# Altium footprint library PASSIVES.PcbLib: 8 footprints
Each footprint in its own frame and in the unit in brackets; x right, y up, seen from the top. Pads: shape width x height; smd on the part's side, far side on the other; paste and mask are expansions set on the pad; w line width, h text height; cw(c..) or ccw(c..) is an arc to the next point about the centre after c.
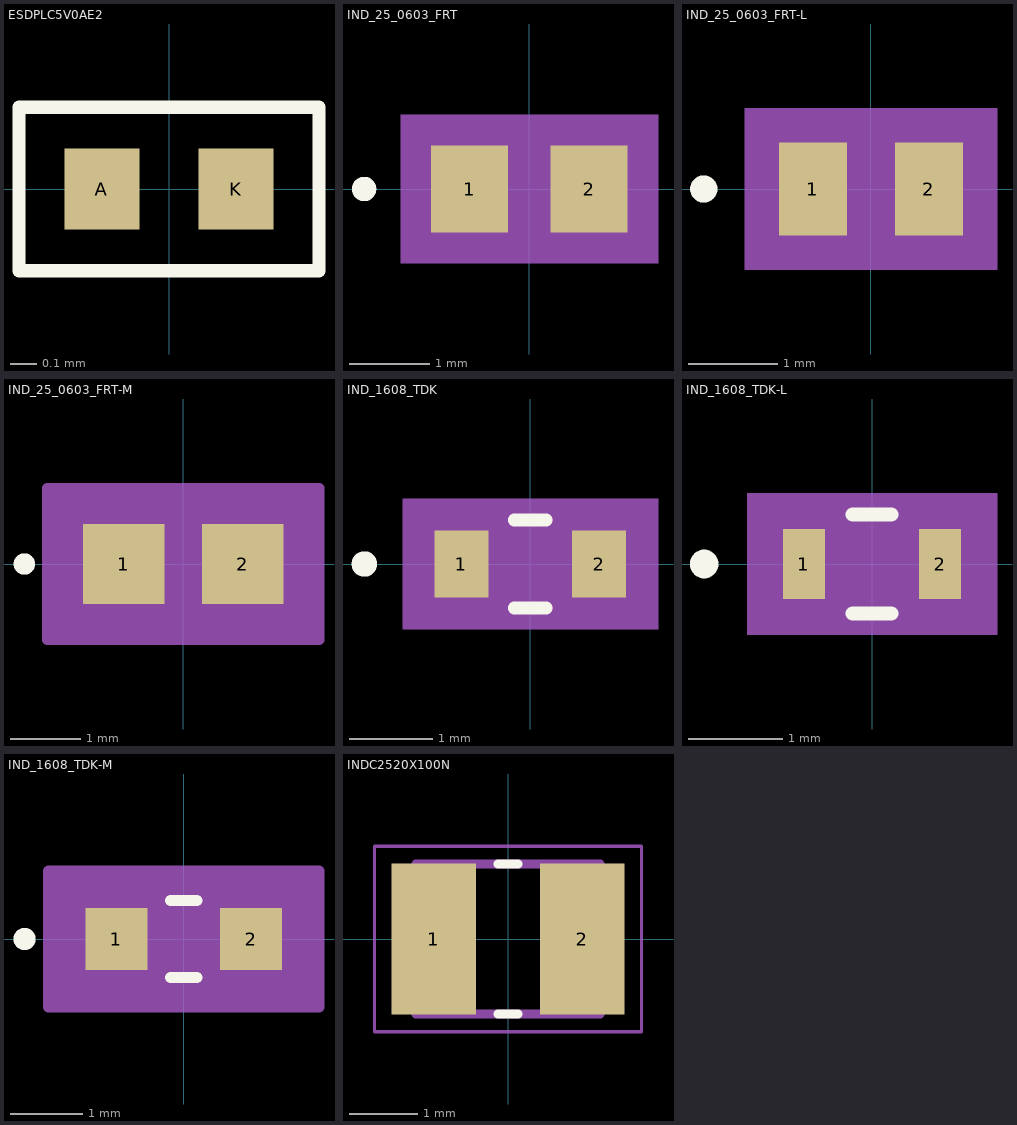
[diagram p0: the footprints below, top view; thin cyan lines are the x and y axes]

## ESDPLC5V0AE2 [mm]
pads (2):
  rect 0.28x0.3 smd: A(-0.25,0) K(0.25,0)
Top Overlay:
  lines w0.05: -0.559,-0.305 -0.559,0.305 0.559,0.305 0.559,-0.305 -0.559,-0.305

## IND_25_0603_FRT [mil]
pads (2):
  rect 37.78x43 smd paste+0 mask+0: 1(-29.39,0) 2(29.39,0)
Top Overlay:
  circle w6: c-81.28,0 r3
Mechanical 5:
  region: 63.28,-36.5 -63.28,-36.5 -63.28,36.5 63.28,36.5
Mechanical 13:
  circle w0: c-24.39,0 r3
  lines w1: -34.5,-21.5 -34.5,21.5 ; -34.5,-21.5 34.5,-21.5 ; -34.5,-21.5 -10.5,-21.5 -10.5,21.5 -34.5,21.5 ; -34.5,-21.5 -34.5,21.5 ; -34.5,21.5 34.5,21.5 ; 34.5,-21.5 34.5,21.5 ; 34.5,-21.5 34.5,21.5 ; 34.5,-21.5 10.5,-21.5 10.5,21.5 34.5,21.5
Mechanical 15:
  region: 58.28,-31.5 -58.28,-31.5 -58.28,31.5 58.28,31.5
  lines w6: -58.28,-31.5 58.28,-31.5 58.28,31.5 -58.28,31.5 -58.28,-31.5
3D body "IND_25_0603_FRT.step": height 42.99, standoff 0, extent -34.49,-21.5 34.49,21.5

## IND_25_0603_FRT-L [mm]
pads (2):
  rect 0.76x1.042 smd paste+0 mask+0: 1(-0.647,0) 2(0.647,0)
Top Overlay:
  circle w0.152: c-1.864,0 r0.076
Mechanical 5:
  region: 1.407,-0.902 -1.407,-0.902 -1.407,0.902 1.407,0.902
Mechanical 13:
  circle w0: c-0.52,0 r0.076
  lines w0.025: -0.876,-0.546 -0.876,0.546 ; -0.876,-0.546 -0.267,-0.546 -0.267,0.546 -0.876,0.546 ; -0.876,-0.546 0.876,-0.546 ; -0.876,-0.546 -0.876,0.546 ; -0.876,0.546 0.876,0.546 ; 0.876,-0.546 0.267,-0.546 0.267,0.546 0.876,0.546 ; 0.876,-0.546 0.876,0.546 ; 0.876,-0.546 0.876,0.546
Mechanical 15:
  region: 1.128,-0.623 -1.128,-0.623 -1.128,0.623 1.128,0.623
  lines w0.152: -1.128,-0.623 -1.128,0.623 1.128,0.623 1.128,-0.623 -1.128,-0.623
3D body "IND_25_0603_FRT.step": height 1.09, standoff 0, extent -0.876,-0.546 0.876,0.546

## IND_25_0603_FRT-M [mm]
pads (2):
  rect 1.16x1.142 smd paste+0 mask+0: 1(-0.847,0) 2(0.847,0)
Top Overlay:
  circle w0.152: c-2.264,0 r0.076
Mechanical 5:
  region: 1.807,-0.952 -1.807,-0.952 -1.807,0.952 1.807,0.952
Mechanical 13:
  circle w0: c-0.72,0 r0.076
  lines w0.025: -0.876,-0.546 -0.876,0.546 ; -0.876,-0.546 -0.267,-0.546 -0.267,0.546 -0.876,0.546 ; -0.876,-0.546 0.876,-0.546 ; -0.876,-0.546 -0.876,0.546 ; -0.876,0.546 0.876,0.546 ; 0.876,-0.546 0.267,-0.546 0.267,0.546 0.876,0.546 ; 0.876,-0.546 0.876,0.546 ; 0.876,-0.546 0.876,0.546
Mechanical 15:
  region: 1.934,-1.079 -1.934,-1.079 -1.934,1.079 1.934,1.079
  lines w0.152: -1.934,-1.079 -1.934,1.079 1.934,1.079 1.934,-1.079 -1.934,-1.079
3D body "IND_25_0603_FRT.step": height 1.09, standoff 0, extent -0.876,-0.546 0.876,0.546

## IND_1608_TDK [mm]
pads (2):
  rect 0.65x0.8 smd paste+0 mask+0: 1(-0.825,0) 2(0.825,0)
Top Overlay:
  circle w0.152: c-1.988,0 r0.076
  lines w0.152: -0.192,-0.527 0.192,-0.527 ; -0.192,0.527 0.192,0.527
Mechanical 5:
  region: 1.531,-0.781 -1.531,-0.781 -1.531,0.781 1.531,0.781
Mechanical 13:
  circle w0: c-0.698,0 r0.076
  lines w0.025: -0.8,-0.4 -0.8,0.4 ; -0.8,-0.4 -0.5,-0.4 -0.5,0.4 -0.8,0.4 ; -0.8,-0.4 0.8,-0.4 ; -0.8,-0.4 -0.8,0.4 ; -0.8,0.4 0.8,0.4 ; 0.8,-0.4 0.5,-0.4 0.5,0.4 0.8,0.4 ; 0.8,-0.4 0.8,0.4 ; 0.8,-0.4 0.8,0.4
Mechanical 15:
  region: 1.404,-0.654 -1.404,-0.654 -1.404,0.654 1.404,0.654
  lines w0.152: -1.404,-0.654 -1.404,0.654 1.404,0.654 1.404,-0.654 -1.404,-0.654
3D body "IND_1608_TDK.step": height 0.8, standoff 0, extent -0.8,-0.4 0.8,0.4

## IND_1608_TDK-L [mm]
pads (2):
  rect 0.45x0.75 smd paste+0 mask+0: 1(-0.725,0) 2(0.725,0)
Top Overlay:
  circle w0.152: c-1.788,0 r0.076
  lines w0.152: -0.204,-0.527 0.204,-0.527 ; -0.204,0.527 0.204,0.527
Mechanical 5:
  region: 1.331,-0.756 -1.331,-0.756 -1.331,0.756 1.331,0.756
Mechanical 13:
  circle w0: c-0.598,0 r0.076
  lines w0.025: -0.8,-0.4 -0.8,0.4 ; -0.8,-0.4 0.8,-0.4 ; -0.8,-0.4 -0.5,-0.4 -0.5,0.4 -0.8,0.4 ; -0.8,-0.4 -0.8,0.4 ; -0.8,0.4 0.8,0.4 ; 0.8,-0.4 0.8,0.4 ; 0.8,-0.4 0.8,0.4 ; 0.8,-0.4 0.5,-0.4 0.5,0.4 0.8,0.4
Mechanical 15:
  region: 1.052,-0.477 -1.052,-0.477 -1.052,0.477 1.052,0.477
  lines w0.152: -1.052,-0.477 1.052,-0.477 1.052,0.477 -1.052,0.477 -1.052,-0.477
3D body "IND_1608_TDK.step": height 0.8, standoff 0, extent -0.8,-0.4 0.8,0.4

## IND_1608_TDK-M [mm]
pads (2):
  rect 0.85x0.85 smd paste+0 mask+0: 1(-0.925,0) 2(0.925,0)
Top Overlay:
  circle w0.152: c-2.188,0 r0.076
  lines w0.152: -0.183,-0.527 0.183,-0.527 ; -0.183,0.527 0.183,0.527
Mechanical 5:
  region: 1.731,-0.806 -1.731,-0.806 -1.731,0.806 1.731,0.806
Mechanical 13:
  circle w0: c-0.798,0 r0.076
  lines w0.025: -0.8,-0.4 -0.8,0.4 ; -0.8,-0.4 -0.5,-0.4 -0.5,0.4 -0.8,0.4 ; -0.8,-0.4 0.8,-0.4 ; -0.8,-0.4 -0.8,0.4 ; -0.8,0.4 0.8,0.4 ; 0.8,-0.4 0.5,-0.4 0.5,0.4 0.8,0.4 ; 0.8,-0.4 0.8,0.4 ; 0.8,-0.4 0.8,0.4
Mechanical 15:
  region: 1.858,-0.933 -1.858,-0.933 -1.858,0.933 1.858,0.933
  lines w0.152: -1.858,-0.933 -1.858,0.933 1.858,0.933 1.858,-0.933 -1.858,-0.933
3D body "IND_1608_TDK.step": height 0.8, standoff 0, extent -0.8,-0.4 0.8,0.4

## INDC2520X100N [mm]
pads (2):
  rect 1.24x2.22 smd: 1(-1.09,0) 2(1.09,0)
Top Overlay:
  lines w0.127: -0.15,-1.1 0.15,-1.1 ; -0.15,1.1 0.15,1.1
Mechanical 13:
  lines w0.127: -1.35,-1.1 1.35,-1.1 1.35,1.1 -1.35,1.1 -1.35,-1.1
Mechanical 15:
  lines w0.05: -1.958,-1.358 1.958,-1.358 1.958,1.358 -1.958,1.358 -1.958,-1.358
3D body "step_temp.STEP": height 1, standoff 0, extent -1.25,-1 1.25,1